# Altium footprint library SMA.PcbLib: 2 footprints
Each footprint in its own frame and in the unit in brackets; x right, y up, seen from the top. Pads: shape width x height; smd on the part's side, far side on the other; paste and mask are expansions set on the pad; w line width, h text height; cw(c..) or ccw(c..) is an arc to the next point about the centre after c.
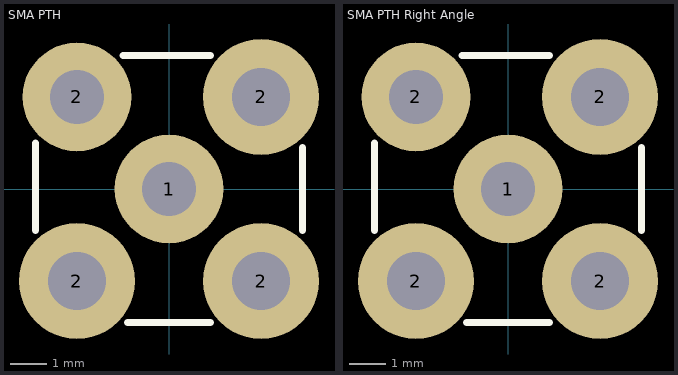
[diagram p0: the footprints below, top view; thin cyan lines are the x and y axes]

## SMA PTH [mm] "SMA Connector Jack, Female Socket 50 Ohm Through Hole Solder"
pads (5):
  round 3 hole 1.5: 1(0,0) 2(-2.54,2.54)
  round 3.2 hole 1.6: 2(-2.54,-2.54) 2(2.54,-2.54) 2(2.54,2.54)
Top Overlay:
  lines w0.2: -3.683,-1.143 -3.683,1.27 ; -1.27,3.683 1.143,3.683 ; -1.143,-3.683 1.143,-3.683 ; 3.683,-1.143 3.683,1.143
3D body "SMA Connector.step": height 9.88, standoff -3.57, extent -3.155,-3.155 3.155,3.155

## SMA PTH Right Angle [mm] "SMA Connector Jack, Female Socket 50 Ohm Through Hole, Right Angle Solder"
pads (5):
  round 3 hole 1.5: 1(0,0) 2(-2.54,2.54)
  round 3.2 hole 1.6: 2(-2.54,-2.54) 2(2.54,-2.54) 2(2.54,2.54)
Top Overlay:
  lines w0.2: -3.683,-1.143 -3.683,1.27 ; -1.27,3.683 1.143,3.683 ; -1.143,-3.683 1.143,-3.683 ; 3.683,-1.143 3.683,1.143
3D body "SMA Connector Right Angle.step": height 9.55, standoff -3.94, extent -3.175,-3.175 11.633,3.175